# EAGLE library part 52892-1095 (library Molex_By_element14_Batch_1)
CONNECTOR, FPC, ZIF, 0.50MM, 10 WAY
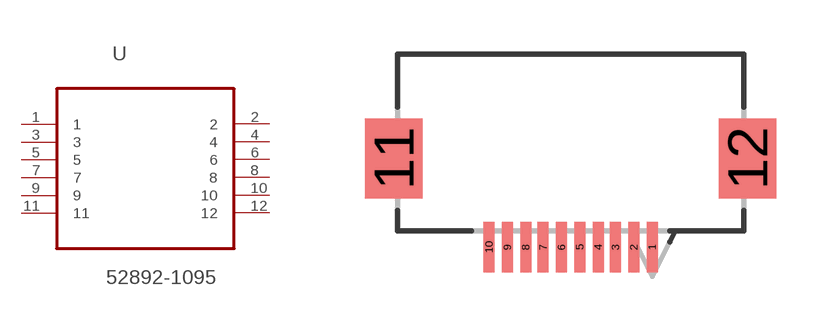
[diagram p27: symbol with the pads of MOLEX_52892-1095; footprint MOLEX_52892-1095]

Designator prefix U

## 52892-1095 (MPN: 52892-1095; OC_FARNELL: 1556804; OC_NEWARK: 92M6594; PACKAGE: CONNECTOR, FPC, ZIF, 0.50MM, 10 WAY; SUPPLIER: Molex)  [MOLEX_52892-1095]
1  1  pas
2  2  pas
3  3  pas
4  4  pas
5  5  pas
6  6  pas
7  7  pas
8  8  pas
9  9  pas
10  10  pas
11  11  pas
12  12  pas

## Footprint MOLEX_52892-1095 (pad centres in mm)
smd 0.305 x 1.397: 1 2.261,2.896; 2 1.753,2.896; 3 1.245,2.896; 4 0.762,2.896; 5 0.254,2.896; 6 -0.254,2.896; 7 -0.762,2.896; 8 -1.245,2.896; 9 -1.753,2.896; 10 -2.261,2.896
smd 1.6 x 2.21: 11 -4.902,5.359; 12 4.902,5.359